# Altium footprint library PCB - LEADED - SOT95P230X110-3N.PCBLIB: 1 footprints
Each footprint in its own frame and in the unit in brackets; x right, y up, seen from the top. Pads: shape width x height; smd on the part's side, far side on the other; paste and mask are expansions set on the pad; w line width, h text height; cw(c..) or ccw(c..) is an arc to the next point about the centre after c.
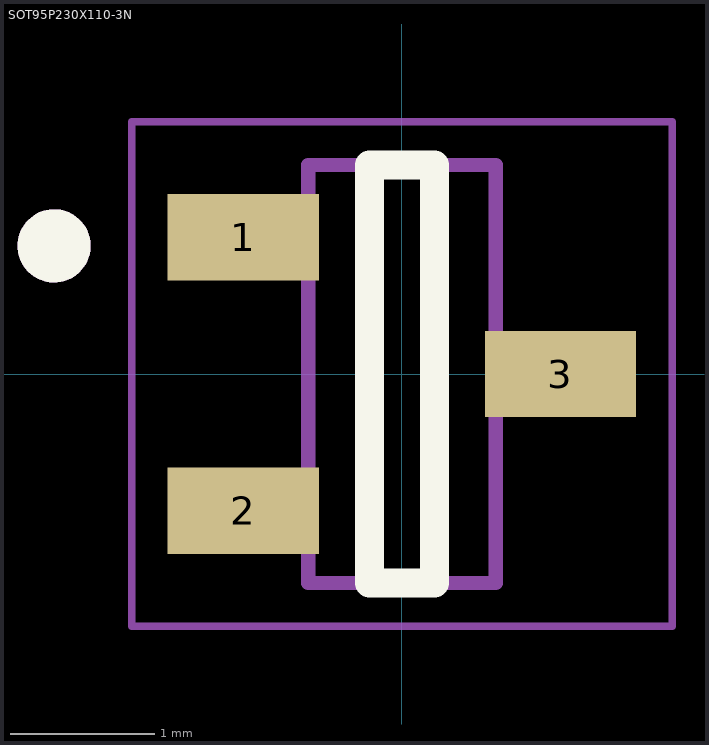
[diagram p0: the footprint, top view; thin cyan lines are the x and y axes]

## SOT95P230X110-3N [mm]
pads (3):
  rect 1.05x0.6 smd: 1(-1.1,0.95) 2(-1.1,-0.95) 3(1.1,0)
Top Overlay:
  circle w0.254: c-2.413,0.889 r0.127
  lines w0.2: -0.225,-1.45 0.225,-1.45 0.225,1.45 -0.225,1.45 -0.225,-1.45
Top Assembly:
  circle w0.254: c-2.413,0.889 r0.127
  lines w0.1: -0.65,-1.45 0.65,-1.45 0.65,1.45 -0.65,1.45 -0.65,-1.45
Top Courtyard:
  lines w0.05: -1.875,-1.75 1.875,-1.75 1.875,1.75 -1.875,1.75 -1.875,-1.75
Top Designator:
  text ".Designator" at -1.905,3.302 h1
Top Value (Mech13):
  text ".Comment" at -1.905,2.286 h1
3D body "PESD1CAN.stp": height 0.96, standoff 0.01, extent -1.25,-1.388 1.15,1.512